# Altium schematic symbol library MCP601T-I-OT.Schlib: 1 symbol
Pins are listed as number, name and electrical type; pins without a type are passive.

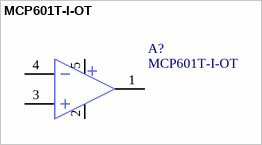
[diagram p0: symbol MCP601T-I-OT]

## MCP601T-I-OT
designator A?
pins: 1 OUT2, 2 GND, 3 IN+2, 4 IN-2, 5 VDD (power)